# Altium footprint library AMPHENOL_67997-410HLF.PcbLib: 1 footprints
Each footprint in its own frame and in the unit in brackets; x right, y up, seen from the top. Pads: shape width x height; smd on the part's side, far side on the other; paste and mask are expansions set on the pad; w line width, h text height; cw(c..) or ccw(c..) is an arc to the next point about the centre after c.
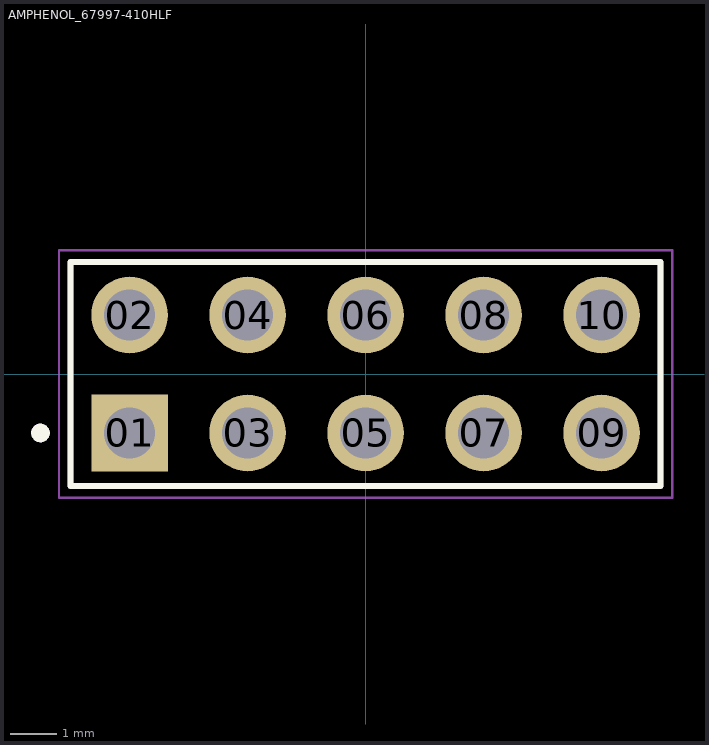
[diagram p0: the footprint, top view; thin cyan lines are the x and y axes]

## AMPHENOL_67997-410HLF [mm]
pads (10):
  rect 1.65x1.65 hole 1.1: 01(-5.08,-1.27)
  round 1.65 hole 1.1: 02(-5.08,1.27) 03(-2.54,-1.27) 04(-2.54,1.27) 05(0,-1.27) 06(0,1.27) 07(2.54,-1.27) 08(2.54,1.27) 09(5.08,-1.27) 10(5.08,1.27)
Top Overlay:
  circle w0.2: c-7,-1.27 r0.1
  lines w0.127: -6.35,-2.415 6.35,-2.415 6.35,2.415 -6.35,2.415 -6.35,-2.415
Mechanical 13:
  circle w0.2: c-7,-1.27 r0.1
  lines w0.127: -6.35,-2.415 -6.35,2.415 ; -6.35,-2.415 6.35,-2.415 ; -6.35,-2.415 -6.35,2.415 ; -6.35,2.415 6.35,2.415 ; -6.35,2.415 6.35,2.415 ; 6.35,-2.415 6.35,2.415 ; 6.35,-2.415 6.35,2.415
Mechanical 15:
  lines w0.05: -6.6,-2.665 6.6,-2.665 6.6,2.665 -6.6,2.665 -6.6,-2.665
3D body "step_temp.STEP": height 8.38, standoff -3.05, extent -6.35,-2.415 6.35,2.415